# Altium integrated library TI Amplifiers and Linear Operational Amplifier High Speed.IntLib: 1100 symbols (part 14 of 44)
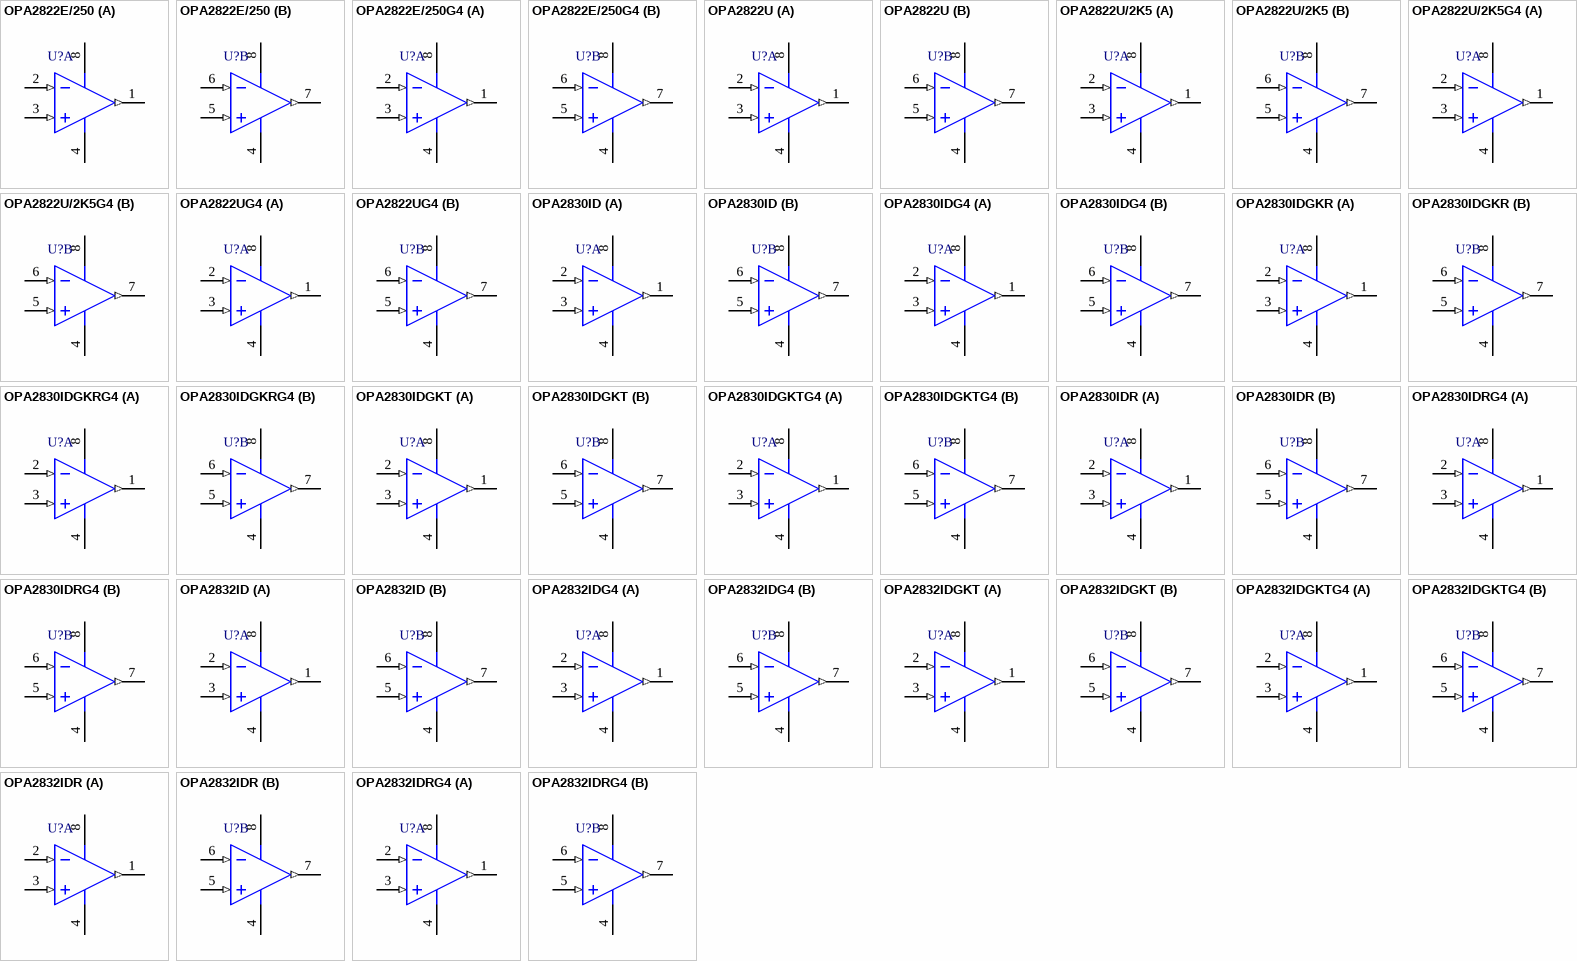
[diagram p64: symbols OPA2822E/250 to OPA2832IDRG4]

## OPA2832IDR
designator U?
Dual, Low Power, High-Speed, Fixed Gain Operational Amplifier, 3 to 11 V, -40 to 85 degC, 8-pin SOIC (D8), Green (RoHS & no Sb/Br); Manufacturer: Texas Instruments; PartNumber: OPA2832IDR; 2nd Harmonic(dBc): 62; 3rd Harmonic(dBc): 72; Acl, min stable gain(V/V): 1; BW @ Acl(MHz): 210; Diff Gain(%): 0.11; Diff Phase(deg): 0.14; Iib(Max)(nA): 10000; Io(Typ)(mA): 75; Iq per channel(Max)(mA): 3.9; Number of Channels: 2; Rail-Rail: Out; Settling Time (0.1%)(Typ)(ns): 46; Slew Rate(Typ)(V/us): 320; Sub Family: High Output Current Amplifier (>=50mA), High Speed Amplifier (>=50MHz); Vio(Max)(mV): 6; Vn at Flatband(Typ)(nV/rtHz): 9.3; Vs(Max)(V): 11; Vs(Min)(V): 3; DatasheetVersion: SBOS327C; PackageVersion: 4040047-3/M, 06/2011; PackageReference: D8; PackageDescription: 8-Pin Plastic Small Outline, Body 4.9 x 3.9 mm, Pitch 1.27 mm; Supplier 1: Digi-Key; Supplier Part Number 1: OPA2832IDR-ND; Supplier 2: Mouser; Supplier Part Number 2: 595-OPA2832IDR; Eco-Plan: Green (RoHS & no Sb/Br); Mounting Technology: Surface Mount; Code_JEDEC: MS-012; ComponentLink1Description: Manufacturer URL; ComponentLink1URL: http://www.ti.com/; ComponentLink2Description: Datasheet; ComponentLink2URL: http://www.ti.com/general/docs/lit/getliterature.tsp?genericPartNumber=OPA2832&fileType=pdf; ComponentLink3Description: Package Specification; ComponentLink3URL: http://www.ti.com/litv/pdf/msoi002j
footprint TI-D8_N (SOIC, 8-Leads, Body 4.9x3.9mm, Pitch 1.27mm, IPC Medium Density)
footprint TI-D8_L (SOIC, 8-Leads, Body 4.9x3.9mm, Pitch 1.27mm, IPC High Density)
footprint TI-D8_M (SOIC, 8-Leads, Body 4.9x3.9mm, Pitch 1.27mm, IPC Low Density)
pins on every part: 4 VS- (power), 8 VS+ (power)
part A pins: 1 OUT1 (out), 2 IN1- (in), 3 IN1+ (in)
part B pins: 5 IN2+ (in), 6 IN2- (in), 7 OUT2 (out)

## OPA2832IDRG4
designator U?
Dual, Low Power, High-Speed, Fixed Gain Operational Amplifier, 3 to 11 V, -40 to 85 degC, 8-pin SOIC (D8), Green (RoHS & no Sb/Br); Manufacturer: Texas Instruments; PartNumber: OPA2832IDRG4; 2nd Harmonic(dBc): 62; 3rd Harmonic(dBc): 72; Acl, min stable gain(V/V): 1; BW @ Acl(MHz): 210; Diff Gain(%): 0.11; Diff Phase(deg): 0.14; Iib(Max)(nA): 10000; Io(Typ)(mA): 75; Iq per channel(Max)(mA): 3.9; Number of Channels: 2; Rail-Rail: Out; Settling Time (0.1%)(Typ)(ns): 46; Slew Rate(Typ)(V/us): 320; Sub Family: High Output Current Amplifier (>=50mA), High Speed Amplifier (>=50MHz); Vio(Max)(mV): 6; Vn at Flatband(Typ)(nV/rtHz): 9.3; Vs(Max)(V): 11; Vs(Min)(V): 3; DatasheetVersion: SBOS327C; PackageVersion: 4040047-3/M, 06/2011; PackageReference: D8; PackageDescription: 8-Pin Plastic Small Outline, Body 4.9 x 3.9 mm, Pitch 1.27 mm; Supplier 1: Digi-Key; Supplier Part Number 1: OPA2832IDRG4-ND; Supplier 2: Mouser; Supplier Part Number 2: 595-OPA2832IDRG4; Eco-Plan: Green (RoHS & no Sb/Br); Mounting Technology: Surface Mount; Code_JEDEC: MS-012; ComponentLink1Description: Manufacturer URL; ComponentLink1URL: http://www.ti.com/; ComponentLink2Description: Datasheet; ComponentLink2URL: http://www.ti.com/general/docs/lit/getliterature.tsp?genericPartNumber=OPA2832&fileType=pdf; ComponentLink3Description: Package Specification; ComponentLink3URL: http://www.ti.com/litv/pdf/msoi002j
footprint TI-D8_N (SOIC, 8-Leads, Body 4.9x3.9mm, Pitch 1.27mm, IPC Medium Density)
footprint TI-D8_L (SOIC, 8-Leads, Body 4.9x3.9mm, Pitch 1.27mm, IPC High Density)
footprint TI-D8_M (SOIC, 8-Leads, Body 4.9x3.9mm, Pitch 1.27mm, IPC Low Density)
pins on every part: 4 VS- (power), 8 VS+ (power)
part A pins: 1 OUT1 (out), 2 IN1- (in), 3 IN1+ (in)
part B pins: 5 IN2+ (in), 6 IN2- (in), 7 OUT2 (out)

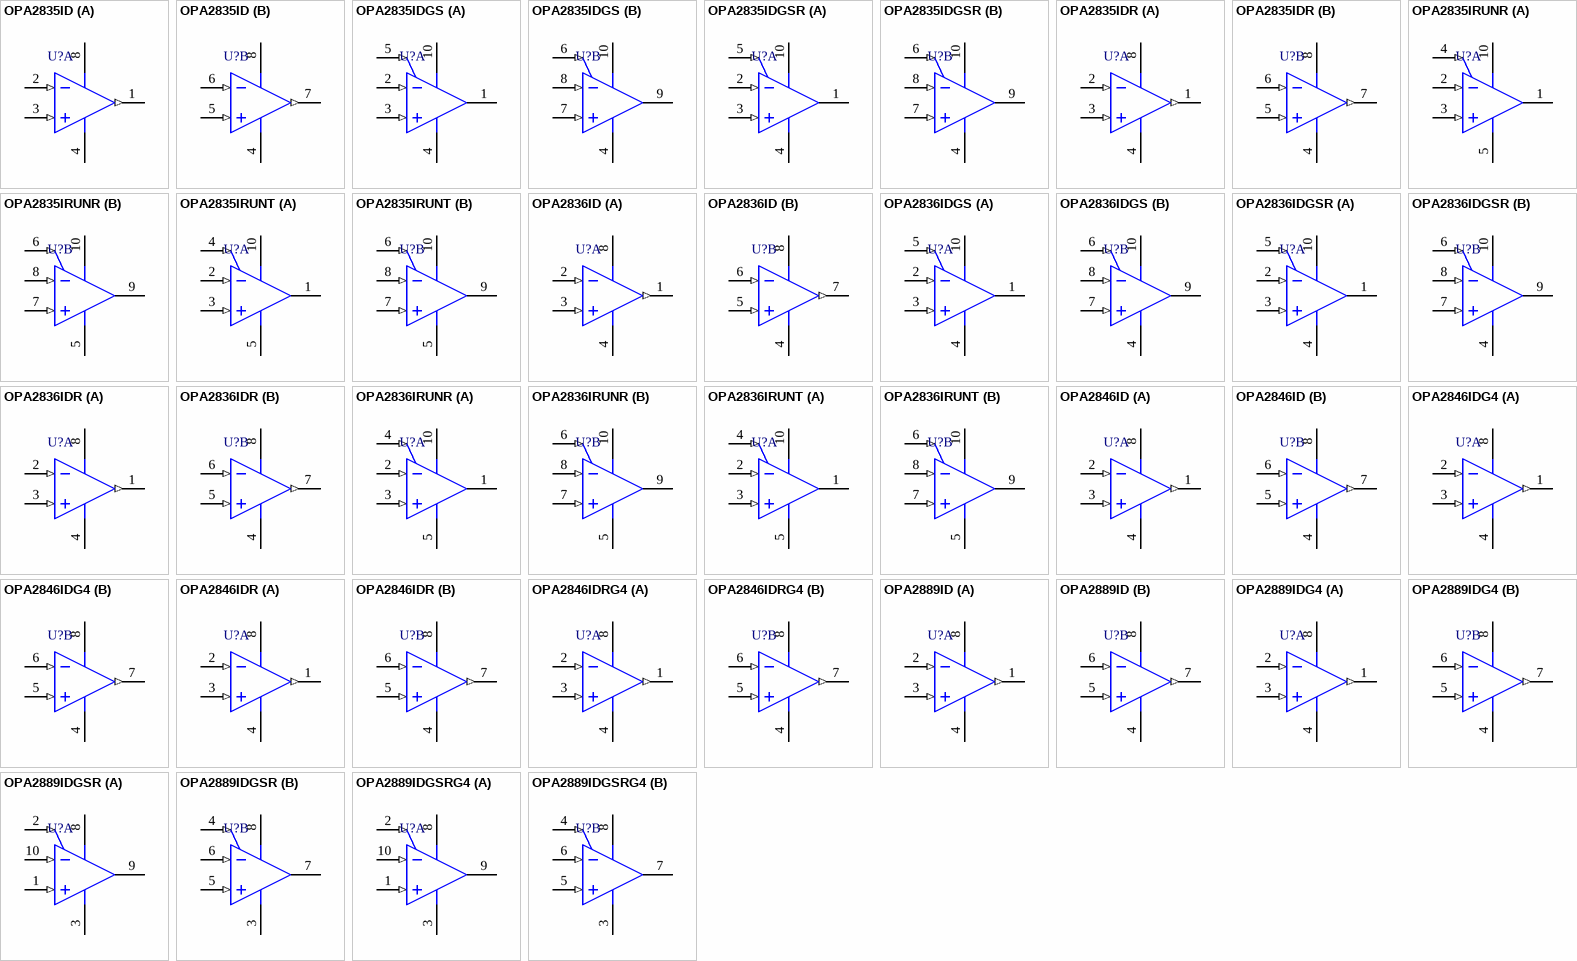
[diagram p14: symbols OPA2835ID to OPA2889IDGSRG4]

## OPA2835ID
designator U?
Dual, Ultra Low Power, Rail-to-Rail Out, Negative Rail In, VFB Amplifier, 2.5 to 5.5 V, -40 to 85 degC, 8-pin SOIC (D8), Green (RoHS & no Sb/Br); Manufacturer: Texas Instruments; PartNumber: OPA2835ID; 2nd Harmonic(dBc): 70; 3rd Harmonic(dBc): 73; Acl, min stable gain(V/V): 1; BW @ Acl(MHz): 56; Iib(Max)(nA): 400; Io(Typ)(mA): 40; Iq per channel(Max)(mA): 0.25; Number of Channels: 2; Settling Time (0.1%)(Typ)(ns): 55; Slew Rate(Typ)(V/us): 160; Sub Family: High Speed Amplifier (>=50MHz), Low Noise Amp (<=10nV/rtHz), Low Offset Voltage Amplifier (<=500uV), Low Power Amp (<=500uA), Low Supply Voltage Amplifier (<=2.7V); Vio(Max)(mV): 0.5; Vn at Flatband(Typ)(nV/rtHz): 9.3; Vs(Max)(V): 5.5; Vs(Min)(V): 2.5; DatasheetVersion: SLOS713D; PackageVersion: 4040047-3/M, 06/2011; PackageReference: D8; PackageDescription: 8-Pin Plastic Small Outline, Body 4.9 x 3.9 mm, Pitch 1.27 mm; Supplier 1: Digi-Key; Supplier Part Number 1: 296-29656-ND; Supplier 2: Farnell; Supplier Part Number 2: 2064256; Supplier 3: Newark; Supplier Part Number 3: 71T7085; Supplier 4: Mouser; Supplier Part Number 4: 595-OPA2835ID; Eco-Plan: Green (RoHS & no Sb/Br); Mounting Technology: Surface Mount; Code_JEDEC: MS-012; ComponentLink1Description: Manufacturer URL; ComponentLink1URL: http://www.ti.com/; ComponentLink2Description: Datasheet; ComponentLink2URL: http://www.ti.com/general/docs/lit/getliterature.tsp?genericPartNumber=OPA2835&fileType=pdf; ComponentLink3Description: Package Specification; ComponentLink3URL: http://www.ti.com/litv/pdf/msoi002j
footprint TI-D8_N (SOIC, 8-Leads, Body 4.9x3.9mm, Pitch 1.27mm, IPC Medium Density)
footprint TI-D8_L (SOIC, 8-Leads, Body 4.9x3.9mm, Pitch 1.27mm, IPC High Density)
footprint TI-D8_M (SOIC, 8-Leads, Body 4.9x3.9mm, Pitch 1.27mm, IPC Low Density)
pins on every part: 4 VS- (power), 8 VS+ (power)
part A pins: 1 VOUT1 (out), 2 VIN1- (in), 3 VIN1+ (in)
part B pins: 5 VIN2+ (in), 6 VIN2- (in), 7 VOUT2 (out)

## OPA2835IDGS
designator U?
Dual, Ultra Low Power, Rail-to-Rail Out, Negative Rail In, VFB Amplifier, 2.5 to 5.5 V, -40 to 85 degC, 10-pin SOP (DGS10), Green (RoHS & no Sb/Br); Manufacturer: Texas Instruments; PartNumber: OPA2835IDGS; 2nd Harmonic(dBc): 70; 3rd Harmonic(dBc): 73; Acl, min stable gain(V/V): 1; BW @ Acl(MHz): 56; Iib(Max)(nA): 400; Io(Typ)(mA): 40; Iq per channel(Max)(mA): 0.25; Number of Channels: 2; Settling Time (0.1%)(Typ)(ns): 55; Slew Rate(Typ)(V/us): 160; Sub Family: High Speed Amplifier (>=50MHz), Low Noise Amp (<=10nV/rtHz), Low Offset Voltage Amplifier (<=500uV), Low Power Amp (<=500uA), Low Supply Voltage Amplifier (<=2.7V); Vio(Max)(mV): 0.5; Vn at Flatband(Typ)(nV/rtHz): 9.3; Vs(Max)(V): 5.5; Vs(Min)(V): 2.5; DatasheetVersion: SLOS713D; PackageVersion: 4073272/C, 02/2004; PackageReference: DGS10; PackageDescription: 10-Pin Plastic Small Outline, Body 3 x 3 mm, Pitch 0.5 mm; Supplier 1: Digi-Key; Supplier Part Number 1: 296-29657-ND; Supplier 2: Farnell; Supplier Part Number 2: 2064257; Supplier 3: Newark; Supplier Part Number 3: 71T7086; Supplier 4: Mouser; Supplier Part Number 4: 595-OPA2835IDGS; Eco-Plan: Green (RoHS & no Sb/Br); Mounting Technology: Surface Mount; Code_JEDEC: MO-153; ComponentLink1Description: Manufacturer URL; ComponentLink1URL: http://www.ti.com/; ComponentLink2Description: Datasheet; ComponentLink2URL: http://www.ti.com/general/docs/lit/getliterature.tsp?genericPartNumber=OPA2835&fileType=pdf; ComponentLink3Description: Package Specification; ComponentLink3URL: http://www.ti.com/lit/ml/mpds035b/mpds035b.pdf
footprint TI-DGS10_N (SOP, 10-Leads, Body 3x3mm, Pitch 0.5mm, IPC Medium Density)
footprint TI-DGS10_L (SOP, 10-Leads, Body 3x3mm, Pitch 0.5mm, IPC High Density)
footprint TI-DGS10_M (SOP, 10-Leads, Body 3x3mm, Pitch 0.5mm, IPC Low Density)
pins on every part: 4 VS- (power) "Negative power supply input", 10 VS+ (power) "Positive power supply input"
part A pins: 1 VOUT1 (hiz) "Amplifier 1 output", 2 VIN1- (in) "Amplifier 1 inverting input", 3 VIN1+ (in) "Amplifier 1 non-inverting input", 5 ~{PD1} (in) "Amplifier 1 Power Down, low = low power mode, high = normal operation (PIN MUST BE DRIVEN)"
part B pins: 6 ~{PD2} (in) "Amplifier 2 Power Down, low = low power mode, high = normal operation (PIN MUST BE DRIVEN)", 7 VIN2+ (in) "Amplifier 2 non-inverting input", 8 VIN2- (in) "Amplifier 2 inverting input", 9 VOUT2 (hiz) "Amplifier 2 output"

## OPA2835IDGSR
designator U?
Dual, Ultra Low Power, Rail-to-Rail Out, Negative Rail In, VFB Amplifier, 2.5 to 5.5 V, -40 to 85 degC, 10-pin SOP (DGS10), Green (RoHS & no Sb/Br); Manufacturer: Texas Instruments; PartNumber: OPA2835IDGSR; 2nd Harmonic(dBc): 70; 3rd Harmonic(dBc): 73; Acl, min stable gain(V/V): 1; BW @ Acl(MHz): 56; Iib(Max)(nA): 400; Io(Typ)(mA): 40; Iq per channel(Max)(mA): 0.25; Number of Channels: 2; Settling Time (0.1%)(Typ)(ns): 55; Slew Rate(Typ)(V/us): 160; Sub Family: High Speed Amplifier (>=50MHz), Low Noise Amp (<=10nV/rtHz), Low Offset Voltage Amplifier (<=500uV), Low Power Amp (<=500uA), Low Supply Voltage Amplifier (<=2.7V); Vio(Max)(mV): 0.5; Vn at Flatband(Typ)(nV/rtHz): 9.3; Vs(Max)(V): 5.5; Vs(Min)(V): 2.5; DatasheetVersion: SLOS713D; PackageVersion: 4073272/C, 02/2004; PackageReference: DGS10; PackageDescription: 10-Pin Plastic Small Outline, Body 3 x 3 mm, Pitch 0.5 mm; Supplier 1: Digi-Key; Supplier Part Number 1: OPA2835IDGSR-ND; Supplier 2: Mouser; Supplier Part Number 2: 595-OPA2835IDGSR; Eco-Plan: Green (RoHS & no Sb/Br); Mounting Technology: Surface Mount; Code_JEDEC: MO-153; ComponentLink1Description: Manufacturer URL; ComponentLink1URL: http://www.ti.com/; ComponentLink2Description: Datasheet; ComponentLink2URL: http://www.ti.com/general/docs/lit/getliterature.tsp?genericPartNumber=OPA2835&fileType=pdf; ComponentLink3Description: Package Specification; ComponentLink3URL: http://www.ti.com/lit/ml/mpds035b/mpds035b.pdf
footprint TI-DGS10_N (SOP, 10-Leads, Body 3x3mm, Pitch 0.5mm, IPC Medium Density)
footprint TI-DGS10_L (SOP, 10-Leads, Body 3x3mm, Pitch 0.5mm, IPC High Density)
footprint TI-DGS10_M (SOP, 10-Leads, Body 3x3mm, Pitch 0.5mm, IPC Low Density)
pins on every part: 4 VS- (power) "Negative power supply input", 10 VS+ (power) "Positive power supply input"
part A pins: 1 VOUT1 (hiz) "Amplifier 1 output", 2 VIN1- (in) "Amplifier 1 inverting input", 3 VIN1+ (in) "Amplifier 1 non-inverting input", 5 ~{PD1} (in) "Amplifier 1 Power Down, low = low power mode, high = normal operation (PIN MUST BE DRIVEN)"
part B pins: 6 ~{PD2} (in) "Amplifier 2 Power Down, low = low power mode, high = normal operation (PIN MUST BE DRIVEN)", 7 VIN2+ (in) "Amplifier 2 non-inverting input", 8 VIN2- (in) "Amplifier 2 inverting input", 9 VOUT2 (hiz) "Amplifier 2 output"

## OPA2835IDR
designator U?
Dual, Ultra Low Power, Rail-to-Rail Out, Negative Rail In, VFB Amplifier, 2.5 to 5.5 V, -40 to 85 degC, 8-pin SOIC (D8), Green (RoHS & no Sb/Br); Manufacturer: Texas Instruments; PartNumber: OPA2835IDR; 2nd Harmonic(dBc): 70; 3rd Harmonic(dBc): 73; Acl, min stable gain(V/V): 1; BW @ Acl(MHz): 56; Iib(Max)(nA): 400; Io(Typ)(mA): 40; Iq per channel(Max)(mA): 0.25; Number of Channels: 2; Settling Time (0.1%)(Typ)(ns): 55; Slew Rate(Typ)(V/us): 160; Sub Family: High Speed Amplifier (>=50MHz), Low Noise Amp (<=10nV/rtHz), Low Offset Voltage Amplifier (<=500uV), Low Power Amp (<=500uA), Low Supply Voltage Amplifier (<=2.7V); Vio(Max)(mV): 0.5; Vn at Flatband(Typ)(nV/rtHz): 9.3; Vs(Max)(V): 5.5; Vs(Min)(V): 2.5; DatasheetVersion: SLOS713D; PackageVersion: 4040047-3/M, 06/2011; PackageReference: D8; PackageDescription: 8-Pin Plastic Small Outline, Body 4.9 x 3.9 mm, Pitch 1.27 mm; Supplier 1: Digi-Key; Supplier Part Number 1: OPA2835IDR-ND; Supplier 2: Mouser; Supplier Part Number 2: 595-OPA2835IDR; Eco-Plan: Green (RoHS & no Sb/Br); Mounting Technology: Surface Mount; Code_JEDEC: MS-012; ComponentLink1Description: Manufacturer URL; ComponentLink1URL: http://www.ti.com/; ComponentLink2Description: Datasheet; ComponentLink2URL: http://www.ti.com/general/docs/lit/getliterature.tsp?genericPartNumber=OPA2835&fileType=pdf; ComponentLink3Description: Package Specification; ComponentLink3URL: http://www.ti.com/litv/pdf/msoi002j
footprint TI-D8_N (SOIC, 8-Leads, Body 4.9x3.9mm, Pitch 1.27mm, IPC Medium Density)
footprint TI-D8_L (SOIC, 8-Leads, Body 4.9x3.9mm, Pitch 1.27mm, IPC High Density)
footprint TI-D8_M (SOIC, 8-Leads, Body 4.9x3.9mm, Pitch 1.27mm, IPC Low Density)
pins on every part: 4 VS- (power), 8 VS+ (power)
part A pins: 1 VOUT1 (out), 2 VIN1- (in), 3 VIN1+ (in)
part B pins: 5 VIN2+ (in), 6 VIN2- (in), 7 VOUT2 (out)

## OPA2835IRUNR
designator U?
Dual, Ultra Low Power, Rail-to-Rail Out, Negative Rail In, VFB Amplifier, 2.5 to 5.5 V, -40 to 85 degC, 10-pin QFN (RUN10), Green (RoHS & no Sb/Br); Manufacturer: Texas Instruments; PartNumber: OPA2835IRUNR; 2nd Harmonic(dBc): 70; 3rd Harmonic(dBc): 73; Acl, min stable gain(V/V): 1; BW @ Acl(MHz): 56; Iib(Max)(nA): 400; Io(Typ)(mA): 40; Iq per channel(Max)(mA): 0.25; Number of Channels: 2; Settling Time (0.1%)(Typ)(ns): 55; Slew Rate(Typ)(V/us): 160; Sub Family: High Speed Amplifier (>=50MHz), Low Noise Amp (<=10nV/rtHz), Low Offset Voltage Amplifier (<=500uV), Low Power Amp (<=500uA), Low Supply Voltage Amplifier (<=2.7V); Vio(Max)(mV): 0.5; Vn at Flatband(Typ)(nV/rtHz): 9.3; Vs(Max)(V): 5.5; Vs(Min)(V): 2.5; DatasheetVersion: SLOS713D; PackageVersion: 4209107/B, 11/2010; PackageReference: RUN10; PackageDescription: 10-Pin Plastic Quad Flatpack No-Lead, Body 2 x 2 mm, Pitch 0.5 mm; Supplier 1: Digi-Key; Supplier Part Number 1: OPA2835IRUNR-ND; Supplier 2: Mouser; Supplier Part Number 2: 595-OPA2835IRUNR; Eco-Plan: Green (RoHS & no Sb/Br); Mounting Technology: Surface Mount; ComponentLink1Description: Manufacturer URL; ComponentLink1URL: http://www.ti.com/; ComponentLink2Description: Datasheet; ComponentLink2URL: http://www.ti.com/general/docs/lit/getliterature.tsp?genericPartNumber=OPA2835&fileType=pdf; ComponentLink3Description: Package Specification; ComponentLink3URL: http://www.ti.com/lit/ml/mpqf225a/mpqf225a.pdf
footprint TI-RUN10_V (QFN, 10-Leads, Body 2x2mm, Pitch 0.5mm, TI Recommended)
pins on every part: 5 VS- (power) "Negative power supply input", 10 VS+ (power) "Positive power supply input"
part A pins: 1 VOUT1 (hiz) "Amplifier 1 output", 2 VIN1- (in) "Amplifier 1 inverting input", 3 VIN1+ (in) "Amplifier 1 non-inverting input", 4 ~{PD1} (in) "Amplifier 1 Power Down, low = low power mode, high = normal operation (PIN MUST BE DRIVEN)"
part B pins: 6 ~{PD2} (in) "Amplifier 2 Power Down, low = low power mode, high = normal operation (PIN MUST BE DRIVEN)", 7 VIN2+ (in) "Amplifier 2 non-inverting input", 8 VIN2- (in) "Amplifier 2 inverting input", 9 VOUT2 (hiz) "Amplifier 2 output"

## OPA2835IRUNT
designator U?
Dual, Ultra Low Power, Rail-to-Rail Out, Negative Rail In, VFB Amplifier, 2.5 to 5.5 V, -40 to 85 degC, 10-pin QFN (RUN10), Green (RoHS & no Sb/Br); Manufacturer: Texas Instruments; PartNumber: OPA2835IRUNT; 2nd Harmonic(dBc): 133; 3rd Harmonic(dBc): 137; @ MHz: 1; BW @ Acl(MHz): 51; Iib(Max)(nA): 425; Iq per channel(Max)(mA): 0.34; Number of Channels: 2; Settling Time (0.1%)(Typ)(ns): 60; Slew Rate(Typ)(V/us): 110; Sub Family: High Speed Amplifier (>=50MHz), Low Noise Amp (<=10nV/rtHz), Low Offset Voltage Amplifier (<=500uV), Low Power Amp (<=500uA), Low Supply Voltage Amplifier (<=2.7V); THD (Fc is 1 MHz)(Typ)(dB): -130; Vn at Flatband(Typ)(nV/rtHz): 9.3; Vs(Max)(V): 5.5; Vs(Min)(V): 2.5; DatasheetVersion: SLOS713D; PackageVersion: 4209107/B, 11/2010; PackageReference: RUN10; PackageDescription: 10-Pin Plastic Quad Flatpack No-Lead, Body 2 x 2 mm, Pitch 0.5 mm; Supplier 1: Digi-Key; Supplier Part Number 1: 296-29671-2-ND; Supplier 2: Digi-Key; Supplier Part Number 2: 296-29671-1-ND; Supplier 3: Digi-Key; Supplier Part Number 3: 296-29671-6-ND; Supplier 4: Farnell; Supplier Part Number 4: 2064258; Supplier 5: Mouser; Supplier Part Number 5: 595-OPA2835IRUNT; Eco-Plan: Green (RoHS & no Sb/Br); Rail-Rail: Out; Mounting Technology: Surface Mount; ComponentLink1Description: Manufacturer URL; ComponentLink1URL: http://www.ti.com/; ComponentLink2Description: Datasheet; ComponentLink2URL: http://www.ti.com/general/docs/lit/getliterature.tsp?genericPartNumber=OPA2835&fileType=pdf; ComponentLink3Description: Package Specification; ComponentLink3URL: http://www.ti.com/lit/ml/mpqf225a/mpqf225a.pdf
footprint TI-RUN10_V (QFN, 10-Leads, Body 2x2mm, Pitch 0.5mm, TI Recommended)
pins on every part: 5 VS- (power) "Negative power supply input", 10 VS+ (power) "Positive power supply input"
part A pins: 1 VOUT1 (hiz) "Amplifier 1 output", 2 VIN1- (in) "Amplifier 1 inverting input", 3 VIN1+ (in) "Amplifier 1 non-inverting input", 4 ~{PD1} (in) "Amplifier 1 Power Down, low = low power mode, high = normal operation (PIN MUST BE DRIVEN)"
part B pins: 6 ~{PD2} (in) "Amplifier 2 Power Down, low = low power mode, high = normal operation (PIN MUST BE DRIVEN)", 7 VIN2+ (in) "Amplifier 2 non-inverting input", 8 VIN2- (in) "Amplifier 2 inverting input", 9 VOUT2 (hiz) "Amplifier 2 output"

## OPA2836ID
designator U?
Dual, Very Low Power, Rail to Rail Out, Negative Rail In, VFB Operational Amplifier, 2.5 to 5.5 V, -40 to 85 degC, 8-pin SOIC (D8), Green (RoHS & no Sb/Br); Manufacturer: Texas Instruments; PartNumber: OPA2836ID; 2nd Harmonic(dBc): 85; 3rd Harmonic(dBc): 105; Acl, min stable gain(V/V): 1; BW @ Acl(MHz): 205; Iib(Max)(nA): 1000; Io(Typ)(mA): 50; Number of Channels: 2; Settling Time (0.1%)(Typ)(ns): 30; Slew Rate(Typ)(V/us): 560; Sub Family: High Output Current Amplifier (>=50mA), High Speed Amplifier (>=50MHz), Low Noise Amp (<=10nV/rtHz), Low Offset Voltage Amplifier (<=500uV), Low Supply Voltage Amplifier (<=2.7V); Vio(Max)(mV): 0.4; Vn at Flatband(Typ)(nV/rtHz): 4.6; Vs(Max)(V): 5.5; Vs(Min)(V): 2.5; DatasheetVersion: SLOS712D; PackageVersion: 4040047-3/M, 06/2011; PackageReference: D8; PackageDescription: 8-Pin Plastic Small Outline, Body 4.9 x 3.9 mm, Pitch 1.27 mm; Supplier 1: Digi-Key; Supplier Part Number 1: 296-29793-5-ND; Supplier 2: Newark; Supplier Part Number 2: 71T5313; Supplier 3: Mouser; Supplier Part Number 3: 595-OPA2836ID; Eco-Plan: Green (RoHS & no Sb/Br); Iq per channel(Max)(mA): 1; Mounting Technology: Surface Mount; Code_JEDEC: MS-012; ComponentLink1Description: Manufacturer URL; ComponentLink1URL: http://www.ti.com/; ComponentLink2Description: Datasheet; ComponentLink2URL: http://www.ti.com/general/docs/lit/getliterature.tsp?genericPartNumber=OPA2836&fileType=pdf; ComponentLink3Description: Package Specification; ComponentLink3URL: http://www.ti.com/litv/pdf/msoi002j
footprint TI-D8_N (SOIC, 8-Leads, Body 4.9x3.9mm, Pitch 1.27mm, IPC Medium Density)
footprint TI-D8_L (SOIC, 8-Leads, Body 4.9x3.9mm, Pitch 1.27mm, IPC High Density)
footprint TI-D8_M (SOIC, 8-Leads, Body 4.9x3.9mm, Pitch 1.27mm, IPC Low Density)
pins on every part: 4 VS- (power) "Negative power supply input", 8 VS+ (power) "Positive power supply input"
part A pins: 1 VOUT1 (out) "Amplifier 1 output", 2 VIN1- (in) "Amplifier 1 inverting input", 3 VIN1+ (in) "Amplifier 1 non-inverting input"
part B pins: 5 VIN2+ (in) "Amplifier 2 non-inverting input", 6 VIN2- (in) "Amplifier 2 inverting input", 7 VOUT2 (out) "Amplifier 2 output"

## OPA2836IDGS
designator U?
Dual, Very Low Power, Rail to Rail Out, Negative Rail In, VFB Operational Amplifier, 2.5 to 5.5 V, -40 to 85 degC, 10-pin SOP (DGS10), Green (RoHS & no Sb/Br); Manufacturer: Texas Instruments; PartNumber: OPA2836IDGS; 2nd Harmonic(dBc): 85; 3rd Harmonic(dBc): 105; Acl, min stable gain(V/V): 1; BW @ Acl(MHz): 205; Iib(Max)(nA): 1000; Io(Typ)(mA): 50; Number of Channels: 2; Settling Time (0.1%)(Typ)(ns): 30; Slew Rate(Typ)(V/us): 560; Sub Family: High Output Current Amplifier (>=50mA), High Speed Amplifier (>=50MHz), Low Noise Amp (<=10nV/rtHz), Low Offset Voltage Amplifier (<=500uV), Low Supply Voltage Amplifier (<=2.7V); Vio(Max)(mV): 0.4; Vn at Flatband(Typ)(nV/rtHz): 4.6; Vs(Max)(V): 5.5; Vs(Min)(V): 2.5; DatasheetVersion: SLOS712D; PackageVersion: 4073272/C, 02/2004; PackageReference: DGS10; PackageDescription: 10-Pin Plastic Small Outline, Body 3 x 3 mm, Pitch 0.5 mm; Supplier 1: Digi-Key; Supplier Part Number 1: OPA2836IDGS-ND; Supplier 2: Newark; Supplier Part Number 2: 71T5314; Supplier 3: Mouser; Supplier Part Number 3: 595-OPA2836IDGS; Eco-Plan: Green (RoHS & no Sb/Br); Iq per channel(Max)(mA): 1; Mounting Technology: Surface Mount; Code_JEDEC: MO-153; ComponentLink1Description: Manufacturer URL; ComponentLink1URL: http://www.ti.com/; ComponentLink2Description: Datasheet; ComponentLink2URL: http://www.ti.com/general/docs/lit/getliterature.tsp?genericPartNumber=OPA2836&fileType=pdf; ComponentLink3Description: Package Specification; ComponentLink3URL: http://www.ti.com/lit/ml/mpds035b/mpds035b.pdf
footprint TI-DGS10_N (SOP, 10-Leads, Body 3x3mm, Pitch 0.5mm, IPC Medium Density)
footprint TI-DGS10_L (SOP, 10-Leads, Body 3x3mm, Pitch 0.5mm, IPC High Density)
footprint TI-DGS10_M (SOP, 10-Leads, Body 3x3mm, Pitch 0.5mm, IPC Low Density)
pins on every part: 4 VS- (power) "Negative power supply input", 10 VS+ (power) "Positive power supply input"
part A pins: 1 VOUT1 (hiz) "Amplifier 1 output", 2 VIN1- (in) "Amplifier 1 inverting input", 3 VIN1+ (in) "Amplifier 1 non-inverting input", 5 ~{PD1} (in) "Amplifier 1 Power Down, low = low power mode, high = normal operation (PIN MUST BE DRIVEN)"
part B pins: 6 ~{PD2} (in) "Amplifier 2 Power Down, low = low power mode, high = normal operation (PIN MUST BE DRIVEN)", 7 VIN2+ (in) "Amplifier 2 non-inverting input", 8 VIN2- (in) "Amplifier 2 inverting input", 9 VOUT2 (hiz) "Amplifier 2 output"

## OPA2836IDGSR
designator U?
Dual, Very Low Power, Rail to Rail Out, Negative Rail In, VFB Operational Amplifier, 2.5 to 5.5 V, -40 to 85 degC, 10-pin SOP (DGS10), Green (RoHS & no Sb/Br); Manufacturer: Texas Instruments; PartNumber: OPA2836IDGSR; 2nd Harmonic(dBc): 85; 3rd Harmonic(dBc): 105; Acl, min stable gain(V/V): 1; BW @ Acl(MHz): 205; Iib(Max)(nA): 1000; Io(Typ)(mA): 50; Number of Channels: 2; Settling Time (0.1%)(Typ)(ns): 30; Slew Rate(Typ)(V/us): 560; Sub Family: High Output Current Amplifier (>=50mA), High Speed Amplifier (>=50MHz), Low Noise Amp (<=10nV/rtHz), Low Offset Voltage Amplifier (<=500uV), Low Supply Voltage Amplifier (<=2.7V); Vio(Max)(mV): 0.4; Vn at Flatband(Typ)(nV/rtHz): 4.6; Vs(Max)(V): 5.5; Vs(Min)(V): 2.5; DatasheetVersion: SLOS712D; PackageVersion: 4073272/C, 02/2004; PackageReference: DGS10; PackageDescription: 10-Pin Plastic Small Outline, Body 3 x 3 mm, Pitch 0.5 mm; Supplier 1: Digi-Key; Supplier Part Number 1: 296-30117-2-ND; Supplier 2: Digi-Key; Supplier Part Number 2: 296-30117-1-ND; Supplier 3: Digi-Key; Supplier Part Number 3: 296-30117-6-ND; Supplier 4: Mouser; Supplier Part Number 4: 595-OPA2836IDGSR; Eco-Plan: Green (RoHS & no Sb/Br); Iq per channel(Max)(mA): 1; Mounting Technology: Surface Mount; Code_JEDEC: MO-153; ComponentLink1Description: Manufacturer URL; ComponentLink1URL: http://www.ti.com/; ComponentLink2Description: Datasheet; ComponentLink2URL: http://www.ti.com/general/docs/lit/getliterature.tsp?genericPartNumber=OPA2836&fileType=pdf; ComponentLink3Description: Package Specification; ComponentLink3URL: http://www.ti.com/lit/ml/mpds035b/mpds035b.pdf
footprint TI-DGS10_N (SOP, 10-Leads, Body 3x3mm, Pitch 0.5mm, IPC Medium Density)
footprint TI-DGS10_L (SOP, 10-Leads, Body 3x3mm, Pitch 0.5mm, IPC High Density)
footprint TI-DGS10_M (SOP, 10-Leads, Body 3x3mm, Pitch 0.5mm, IPC Low Density)
pins on every part: 4 VS- (power) "Negative power supply input", 10 VS+ (power) "Positive power supply input"
part A pins: 1 VOUT1 (hiz) "Amplifier 1 output", 2 VIN1- (in) "Amplifier 1 inverting input", 3 VIN1+ (in) "Amplifier 1 non-inverting input", 5 ~{PD1} (in) "Amplifier 1 Power Down, low = low power mode, high = normal operation (PIN MUST BE DRIVEN)"
part B pins: 6 ~{PD2} (in) "Amplifier 2 Power Down, low = low power mode, high = normal operation (PIN MUST BE DRIVEN)", 7 VIN2+ (in) "Amplifier 2 non-inverting input", 8 VIN2- (in) "Amplifier 2 inverting input", 9 VOUT2 (hiz) "Amplifier 2 output"

## OPA2836IDR
designator U?
Dual, Very Low Power, Rail to Rail Out, Negative Rail In, VFB Operational Amplifier, 2.5 to 5.5 V, -40 to 85 degC, 8-pin SOIC (D8), Green (RoHS & no Sb/Br); Manufacturer: Texas Instruments; PartNumber: OPA2836IDR; 2nd Harmonic(dBc): 85; 3rd Harmonic(dBc): 105; Acl, min stable gain(V/V): 1; BW @ Acl(MHz): 205; Iib(Max)(nA): 1000; Io(Typ)(mA): 50; Number of Channels: 2; Settling Time (0.1%)(Typ)(ns): 30; Slew Rate(Typ)(V/us): 560; Sub Family: High Output Current Amplifier (>=50mA), High Speed Amplifier (>=50MHz), Low Noise Amp (<=10nV/rtHz), Low Offset Voltage Amplifier (<=500uV), Low Supply Voltage Amplifier (<=2.7V); Vio(Max)(mV): 0.4; Vn at Flatband(Typ)(nV/rtHz): 4.6; Vs(Max)(V): 5.5; Vs(Min)(V): 2.5; DatasheetVersion: SLOS712D; PackageVersion: 4040047-3/M, 06/2011; PackageReference: D8; PackageDescription: 8-Pin Plastic Small Outline, Body 4.9 x 3.9 mm, Pitch 1.27 mm; Supplier 1: Digi-Key; Supplier Part Number 1: OPA2836IDR-ND; Supplier 2: Mouser; Supplier Part Number 2: 595-OPA2836IDR; Eco-Plan: Green (RoHS & no Sb/Br); Iq per channel(Max)(mA): 1; Mounting Technology: Surface Mount; Code_JEDEC: MS-012; ComponentLink1Description: Manufacturer URL; ComponentLink1URL: http://www.ti.com/; ComponentLink2Description: Datasheet; ComponentLink2URL: http://www.ti.com/general/docs/lit/getliterature.tsp?genericPartNumber=OPA2836&fileType=pdf; ComponentLink3Description: Package Specification; ComponentLink3URL: http://www.ti.com/litv/pdf/msoi002j
footprint TI-D8_N (SOIC, 8-Leads, Body 4.9x3.9mm, Pitch 1.27mm, IPC Medium Density)
footprint TI-D8_L (SOIC, 8-Leads, Body 4.9x3.9mm, Pitch 1.27mm, IPC High Density)
footprint TI-D8_M (SOIC, 8-Leads, Body 4.9x3.9mm, Pitch 1.27mm, IPC Low Density)
pins on every part: 4 VS- (power) "Negative power supply input", 8 VS+ (power) "Positive power supply input"
part A pins: 1 VOUT1 (out) "Amplifier 1 output", 2 VIN1- (in) "Amplifier 1 inverting input", 3 VIN1+ (in) "Amplifier 1 non-inverting input"
part B pins: 5 VIN2+ (in) "Amplifier 2 non-inverting input", 6 VIN2- (in) "Amplifier 2 inverting input", 7 VOUT2 (out) "Amplifier 2 output"

## OPA2836IRUNR
designator U?
Dual, Very Low Power, Rail to Rail Out, Negative Rail In, VFB Operational Amplifier, 2.5 to 5.5 V, -40 to 85 degC, 10-pin QFN (RUN10), Green (RoHS & no Sb/Br); Manufacturer: Texas Instruments; PartNumber: OPA2836IRUNR; 2nd Harmonic(dBc): 85; 3rd Harmonic(dBc): 105; Acl, min stable gain(V/V): 1; BW @ Acl(MHz): 205; Iib(Max)(nA): 1000; Io(Typ)(mA): 50; Number of Channels: 2; Settling Time (0.1%)(Typ)(ns): 30; Slew Rate(Typ)(V/us): 560; Sub Family: High Output Current Amplifier (>=50mA), High Speed Amplifier (>=50MHz), Low Noise Amp (<=10nV/rtHz), Low Offset Voltage Amplifier (<=500uV), Low Supply Voltage Amplifier (<=2.7V); Vio(Max)(mV): 0.4; Vn at Flatband(Typ)(nV/rtHz): 4.6; Vs(Max)(V): 5.5; Vs(Min)(V): 2.5; DatasheetVersion: SLOS712D; PackageVersion: 4209107/B, 11/2010; PackageReference: RUN10; PackageDescription: 10-Pin Plastic Quad Flatpack No-Lead, Body 2 x 2 mm, Pitch 0.5 mm; Supplier 1: Digi-Key; Supplier Part Number 1: OPA2836IRUNR-ND; Supplier 2: Mouser; Supplier Part Number 2: 595-OPA2836IRUNR; Eco-Plan: Green (RoHS & no Sb/Br); Iq per channel(Max)(mA): 1; Mounting Technology: Surface Mount; ComponentLink1Description: Manufacturer URL; ComponentLink1URL: http://www.ti.com/; ComponentLink2Description: Datasheet; ComponentLink2URL: http://www.ti.com/general/docs/lit/getliterature.tsp?genericPartNumber=OPA2836&fileType=pdf; ComponentLink3Description: Package Specification; ComponentLink3URL: http://www.ti.com/lit/ml/mpqf225a/mpqf225a.pdf
footprint TI-RUN10_V (QFN, 10-Leads, Body 2x2mm, Pitch 0.5mm, TI Recommended)
pins on every part: 5 VS- (power) "Negative power supply input", 10 VS+ (power) "Positive power supply input"
part A pins: 1 VOUT1 (hiz) "Amplifier 1 output", 2 VIN1- (in) "Amplifier 1 inverting input", 3 VIN1+ (in) "Amplifier 1 non-inverting input", 4 ~{PD1} (in) "Amplifier 1 Power Down, low = low power mode, high = normal operation (PIN MUST BE DRIVEN)"
part B pins: 6 ~{PD2} (in) "Amplifier 2 Power Down, low = low power mode, high = normal operation (PIN MUST BE DRIVEN)", 7 VIN2+ (in) "Amplifier 2 non-inverting input", 8 VIN2- (in) "Amplifier 2 inverting input", 9 VOUT2 (hiz) "Amplifier 2 output"

## OPA2836IRUNT
designator U?
Dual, Very Low Power, Rail to Rail Out, Negative Rail In, VFB Operational Amplifier, 2.5 to 5.5 V, -40 to 85 degC, 10-pin QFN (RUN10), Green (RoHS & no Sb/Br); Manufacturer: Texas Instruments; PartNumber: OPA2836IRUNT; 2nd Harmonic(dBc): 85; 3rd Harmonic(dBc): 105; Acl, min stable gain(V/V): 1; BW @ Acl(MHz): 205; Iib(Max)(nA): 1550; Io(Typ)(mA): 50; Iq per channel(Max)(mA): 1.2; Number of Channels: 2; Settling Time (0.1%)(Typ)(ns): 30; Slew Rate(Typ)(V/us): 560; Sub Family: High Output Current Amplifier (>=50mA), High Speed Amplifier (>=50MHz), Low Noise Amp (<=10nV/rtHz), Low Offset Voltage Amplifier (<=500uV), Low Supply Voltage Amplifier (<=2.7V); THD (Fc is 1 MHz)(Typ)(dB): -130; Vio(Max)(mV): 0.4; Vn at Flatband(Typ)(nV/rtHz): 4.6; Vs(Max)(V): 5.5; Vs(Min)(V): 2.5; DatasheetVersion: SLOS712D; PackageVersion: 4209107/B, 11/2010; PackageReference: RUN10; PackageDescription: 10-Pin Plastic Quad Flatpack No-Lead, Body 2 x 2 mm, Pitch 0.5 mm; Supplier 1: Digi-Key; Supplier Part Number 1: 296-29672-2-ND; Supplier 2: Digi-Key; Supplier Part Number 2: 296-29672-1-ND; Supplier 3: Digi-Key; Supplier Part Number 3: 296-29672-6-ND; Supplier 4: Farnell; Supplier Part Number 4: 2300736; Supplier 5: Newark; Supplier Part Number 5: 24W9078; Supplier 6: Newark; Supplier Part Number 6: 71T5318; Supplier 7: Mouser; Supplier Part Number 7: 595-OPA2836IRUNT; Eco-Plan: Green (RoHS & no Sb/Br); Rail-Rail: Out; Mounting Technology: Surface Mount; ComponentLink1Description: Manufacturer URL; ComponentLink1URL: http://www.ti.com/; ComponentLink2Description: Datasheet; ComponentLink2URL: http://www.ti.com/general/docs/lit/getliterature.tsp?genericPartNumber=OPA2836&fileType=pdf; ComponentLink3Description: Package Specification; ComponentLink3URL: http://www.ti.com/lit/ml/mpqf225a/mpqf225a.pdf
footprint TI-RUN10_V (QFN, 10-Leads, Body 2x2mm, Pitch 0.5mm, TI Recommended)
pins on every part: 5 VS- (power) "Negative power supply input", 10 VS+ (power) "Positive power supply input"
part A pins: 1 VOUT1 (hiz) "Amplifier 1 output", 2 VIN1- (in) "Amplifier 1 inverting input", 3 VIN1+ (in) "Amplifier 1 non-inverting input", 4 ~{PD1} (in) "Amplifier 1 Power Down, low = low power mode, high = normal operation (PIN MUST BE DRIVEN)"
part B pins: 6 ~{PD2} (in) "Amplifier 2 Power Down, low = low power mode, high = normal operation (PIN MUST BE DRIVEN)", 7 VIN2+ (in) "Amplifier 2 non-inverting input", 8 VIN2- (in) "Amplifier 2 inverting input", 9 VOUT2 (hiz) "Amplifier 2 output"

## OPA2846ID
designator U?
Dual, Wideband, Low-Noise, Voltage-Feedback Operational Amplifier, 6 to 12 V, -40 to 85 degC, 8-pin SOIC (D8), Green (RoHS & no Sb/Br); Manufacturer: Texas Instruments; PartNumber: OPA2846ID; 2nd Harmonic(dBc): 95; 3rd Harmonic(dBc): 109; @ MHz: 5; Acl, min stable gain(V/V): 7; BW @ Acl(MHz): 425; Diff Gain(%): 0.02; Iib(Max)(nA): 21200; Io(Typ)(mA): 80; Iq per channel(Max)(mA): 13.35; Number of Channels: 2; Settling Time (0.1%)(Typ)(ns): 18; Slew Rate(Typ)(V/us): 600; Sub Family: High Output Current Amplifier (>=50mA), High Speed Amplifier (>=50MHz); THD (Fc is 1 MHz)(Typ)(dB): -84; Vio(Max)(mV): 0.65; Vn at Flatband(Typ)(nV/rtHz): 1.2; Vs(Max)(V): 12; Vs(Min)(V): 6; DatasheetVersion: SBOS274C; PackageVersion: 4040047-3/M, 06/2011; PackageReference: D8; PackageDescription: 8-Pin Plastic Small Outline, Body 4.9 x 3.9 mm, Pitch 1.27 mm; Supplier 1: Digi-Key; Supplier Part Number 1: 296-16853-5-ND; Supplier 2: Newark; Supplier Part Number 2: 01J0606; Supplier 3: Mouser; Supplier Part Number 3: 595-OPA2846ID; Diff Phase(deg): 0.02; Eco-Plan: Green (RoHS & no Sb/Br); Mounting Technology: Surface Mount; Code_JEDEC: MS-012; ComponentLink1Description: Manufacturer URL; ComponentLink1URL: http://www.ti.com/; ComponentLink2Description: Datasheet; ComponentLink2URL: http://www.ti.com/general/docs/lit/getliterature.tsp?genericPartNumber=OPA2846&fileType=pdf; ComponentLink3Description: Package Specification; ComponentLink3URL: http://www.ti.com/litv/pdf/msoi002j
footprint TI-D8_N (SOIC, 8-Leads, Body 4.9x3.9mm, Pitch 1.27mm, IPC Medium Density)
footprint TI-D8_L (SOIC, 8-Leads, Body 4.9x3.9mm, Pitch 1.27mm, IPC High Density)
footprint TI-D8_M (SOIC, 8-Leads, Body 4.9x3.9mm, Pitch 1.27mm, IPC Low Density)
pins on every part: 4 V- (power), 8 V+ (power)
part A pins: 1 OUT A (out), 2 IN A- (in), 3 IN A+ (in)
part B pins: 5 IN B+ (in), 6 IN B- (in), 7 OUT B (out)

## OPA2846IDG4
designator U?
Dual, Wideband, Low-Noise, Voltage-Feedback Operational Amplifier, 6 to 12 V, -40 to 85 degC, 8-pin SOIC (D8), Green (RoHS & no Sb/Br); Manufacturer: Texas Instruments; PartNumber: OPA2846IDG4; 2nd Harmonic(dBc): 95; 3rd Harmonic(dBc): 109; @ MHz: 5; Acl, min stable gain(V/V): 7; BW @ Acl(MHz): 425; Diff Gain(%): 0.02; Iib(Max)(nA): 21200; Io(Typ)(mA): 80; Iq per channel(Max)(mA): 13.35; Number of Channels: 2; Settling Time (0.1%)(Typ)(ns): 18; Slew Rate(Typ)(V/us): 600; Sub Family: High Output Current Amplifier (>=50mA), High Speed Amplifier (>=50MHz); THD (Fc is 1 MHz)(Typ)(dB): -84; Vio(Max)(mV): 0.65; Vn at Flatband(Typ)(nV/rtHz): 1.2; Vs(Max)(V): 12; Vs(Min)(V): 6; DatasheetVersion: SBOS274C; PackageVersion: 4040047-3/M, 06/2011; PackageReference: D8; PackageDescription: 8-Pin Plastic Small Outline, Body 4.9 x 3.9 mm, Pitch 1.27 mm; Supplier 1: Digi-Key; Supplier Part Number 1: OPA2846IDG4-ND; Supplier 2: Mouser; Supplier Part Number 2: 595-OPA2846IDG4; Diff Phase(deg): 0.02; Eco-Plan: Green (RoHS & no Sb/Br); Mounting Technology: Surface Mount; Code_JEDEC: MS-012; ComponentLink1Description: Manufacturer URL; ComponentLink1URL: http://www.ti.com/; ComponentLink2Description: Datasheet; ComponentLink2URL: http://www.ti.com/general/docs/lit/getliterature.tsp?genericPartNumber=OPA2846&fileType=pdf; ComponentLink3Description: Package Specification; ComponentLink3URL: http://www.ti.com/litv/pdf/msoi002j
footprint TI-D8_N (SOIC, 8-Leads, Body 4.9x3.9mm, Pitch 1.27mm, IPC Medium Density)
footprint TI-D8_L (SOIC, 8-Leads, Body 4.9x3.9mm, Pitch 1.27mm, IPC High Density)
footprint TI-D8_M (SOIC, 8-Leads, Body 4.9x3.9mm, Pitch 1.27mm, IPC Low Density)
pins on every part: 4 V- (power), 8 V+ (power)
part A pins: 1 OUT A (out), 2 IN A- (in), 3 IN A+ (in)
part B pins: 5 IN B+ (in), 6 IN B- (in), 7 OUT B (out)

## OPA2846IDR
designator U?
Dual, Wideband, Low-Noise, Voltage-Feedback Operational Amplifier, 6 to 12 V, -40 to 85 degC, 8-pin SOIC (D8), Green (RoHS & no Sb/Br); Manufacturer: Texas Instruments; PartNumber: OPA2846IDR; 2nd Harmonic(dBc): 95; 3rd Harmonic(dBc): 109; @ MHz: 5; Acl, min stable gain(V/V): 7; BW @ Acl(MHz): 425; Diff Gain(%): 0.02; Iib(Max)(nA): 21200; Io(Typ)(mA): 80; Iq per channel(Max)(mA): 13.35; Number of Channels: 2; Settling Time (0.1%)(Typ)(ns): 18; Slew Rate(Typ)(V/us): 600; Sub Family: High Output Current Amplifier (>=50mA), High Speed Amplifier (>=50MHz); THD (Fc is 1 MHz)(Typ)(dB): -84; Vio(Max)(mV): 0.65; Vn at Flatband(Typ)(nV/rtHz): 1.2; Vs(Max)(V): 12; Vs(Min)(V): 6; DatasheetVersion: SBOS274C; PackageVersion: 4040047-3/M, 06/2011; PackageReference: D8; PackageDescription: 8-Pin Plastic Small Outline, Body 4.9 x 3.9 mm, Pitch 1.27 mm; Supplier 1: Digi-Key; Supplier Part Number 1: OPA2846IDR-ND; Supplier 2: Mouser; Supplier Part Number 2: 595-OPA2846IDR; Diff Phase(deg): 0.02; Eco-Plan: Green (RoHS & no Sb/Br); Mounting Technology: Surface Mount; Code_JEDEC: MS-012; ComponentLink1Description: Manufacturer URL; ComponentLink1URL: http://www.ti.com/; ComponentLink2Description: Datasheet; ComponentLink2URL: http://www.ti.com/general/docs/lit/getliterature.tsp?genericPartNumber=OPA2846&fileType=pdf; ComponentLink3Description: Package Specification; ComponentLink3URL: http://www.ti.com/litv/pdf/msoi002j
footprint TI-D8_N (SOIC, 8-Leads, Body 4.9x3.9mm, Pitch 1.27mm, IPC Medium Density)
footprint TI-D8_L (SOIC, 8-Leads, Body 4.9x3.9mm, Pitch 1.27mm, IPC High Density)
footprint TI-D8_M (SOIC, 8-Leads, Body 4.9x3.9mm, Pitch 1.27mm, IPC Low Density)
pins on every part: 4 V- (power), 8 V+ (power)
part A pins: 1 OUT A (out), 2 IN A- (in), 3 IN A+ (in)
part B pins: 5 IN B+ (in), 6 IN B- (in), 7 OUT B (out)

## OPA2846IDRG4
designator U?
Dual, Wideband, Low-Noise, Voltage-Feedback Operational Amplifier, 6 to 12 V, -40 to 85 degC, 8-pin SOIC (D8), Green (RoHS & no Sb/Br); Manufacturer: Texas Instruments; PartNumber: OPA2846IDRG4; 2nd Harmonic(dBc): 76; 3rd Harmonic(dBc): 109; @ MHz: 5; Acl, min stable gain(V/V): 7; BW @ Acl(MHz): 425; Diff Gain(%): 0.02; Iib(Max)(nA): 21200; Io(Typ)(mA): 80; Iq per channel(Max)(mA): 13.35; Number of Channels: 2; Settling Time (0.1%)(Typ)(ns): 12; Slew Rate(Typ)(V/us): 600; Sub Family: High Output Current Amplifier (>=50mA), High Speed Amplifier (>=50MHz); THD (Fc is 1 MHz)(Typ)(dB): -84; Vio(Max)(mV): 0.76; Vn at Flatband(Typ)(nV/rtHz): 1.2; Vs(Min)(V): 6; DatasheetVersion: SBOS274C; PackageVersion: 4040047-3/M, 06/2011; PackageReference: D8; PackageDescription: 8-Pin Plastic Small Outline, Body 4.9 x 3.9 mm, Pitch 1.27 mm; Supplier 1: Digi-Key; Supplier Part Number 1: OPA2846IDRG4-ND; Supplier 2: Mouser; Supplier Part Number 2: 595-OPA2846IDRG4; Diff Phase(deg): 0.02; Eco-Plan: Green (RoHS & no Sb/Br); Vs(Max)(V): 12; Mounting Technology: Surface Mount; Code_JEDEC: MS-012; ComponentLink1Description: Manufacturer URL; ComponentLink1URL: http://www.ti.com/; ComponentLink2Description: Datasheet; ComponentLink2URL: http://www.ti.com/general/docs/lit/getliterature.tsp?genericPartNumber=OPA2846&fileType=pdf; ComponentLink3Description: Package Specification; ComponentLink3URL: http://www.ti.com/litv/pdf/msoi002j
footprint TI-D8_N (SOIC, 8-Leads, Body 4.9x3.9mm, Pitch 1.27mm, IPC Medium Density)
footprint TI-D8_L (SOIC, 8-Leads, Body 4.9x3.9mm, Pitch 1.27mm, IPC High Density)
footprint TI-D8_M (SOIC, 8-Leads, Body 4.9x3.9mm, Pitch 1.27mm, IPC Low Density)
pins on every part: 4 V- (power), 8 V+ (power)
part A pins: 1 OUT A (out), 2 IN A- (in), 3 IN A+ (in)
part B pins: 5 IN B+ (in), 6 IN B- (in), 7 OUT B (out)

## OPA2889ID
designator U?
Dual, Low Power, Wideband, Voltage Feedback Operational Amplifier with Disable, 2.6 to 12 V, -40 to 85 degC, 8-pin SOIC (D8), Green (RoHS & no Sb/Br); Manufacturer: Texas Instruments; PartNumber: OPA2889ID; 2nd Harmonic(dBc): 75; 3rd Harmonic(dBc): 80; @ MHz: 1; BW @ Acl(MHz): 115; Diff Gain(%): 0.06; Diff Phase(deg): 0.04; Iib(Max)(nA): 750; Io(Typ)(mA): 40; Iq per channel(Max)(mA): 0.46; Number of Channels: 2; Settling Time (0.1%)(Typ)(ns): 25; Slew Rate(Typ)(V/us): 250; Sub Family: High Speed Amplifier (>=50MHz), Low Supply Voltage Amplifier (<=2.7V); THD (Fc is 1 MHz)(Typ)(dB): -74; Vio(Max)(mV): 5; Vn at Flatband(Typ)(nV/rtHz): 8.4; Vs(Max)(V): 12; Vs(Min)(V): 2.6; DatasheetVersion: SBOS373B; PackageVersion: 4040047-3/M, 06/2011; PackageReference: D8; PackageDescription: 8-Pin Plastic Small Outline, Body 4.9 x 3.9 mm, Pitch 1.27 mm; Supplier 1: Digi-Key; Supplier Part Number 1: 296-22185-5-ND; Supplier 2: Farnell; Supplier Part Number 2: 1603400; Supplier 3: Newark; Supplier Part Number 3: 12N2332; Supplier 4: Newark; Supplier Part Number 4: 50M8876; Supplier 5: Mouser; Supplier Part Number 5: 595-OPA2889ID; Acl, min stable gain(V/V): 1; Eco-Plan: Green (RoHS & no Sb/Br); Mounting Technology: Surface Mount; Code_JEDEC: MS-012; ComponentLink1Description: Manufacturer URL; ComponentLink1URL: http://www.ti.com/; ComponentLink2Description: Datasheet; ComponentLink2URL: http://www.ti.com/general/docs/lit/getliterature.tsp?genericPartNumber=OPA2889&fileType=pdf; ComponentLink3Description: Package Specification; ComponentLink3URL: http://www.ti.com/litv/pdf/msoi002j
footprint TI-D8_N (SOIC, 8-Leads, Body 4.9x3.9mm, Pitch 1.27mm, IPC Medium Density)
footprint TI-D8_L (SOIC, 8-Leads, Body 4.9x3.9mm, Pitch 1.27mm, IPC High Density)
footprint TI-D8_M (SOIC, 8-Leads, Body 4.9x3.9mm, Pitch 1.27mm, IPC Low Density)
pins on every part: 4 VS- (power), 8 VS+ (power)
part A pins: 1 OUT A (out), 2 IN A- (in), 3 IN A+ (in)
part B pins: 5 IN B+ (in), 6 IN B- (in), 7 OUT B (out)

## OPA2889IDG4
designator U?
Dual, Low Power, Wideband, Voltage Feedback Operational Amplifier with Disable, 2.6 to 12 V, -40 to 85 degC, 8-pin SOIC (D8), Green (RoHS & no Sb/Br); Manufacturer: Texas Instruments; PartNumber: OPA2889IDG4; 2nd Harmonic(dBc): 75; 3rd Harmonic(dBc): 80; @ MHz: 1; BW @ Acl(MHz): 115; Diff Gain(%): 0.06; Diff Phase(deg): 0.04; Iib(Max)(nA): 750; Io(Typ)(mA): 40; Iq per channel(Max)(mA): 0.46; Number of Channels: 2; Settling Time (0.1%)(Typ)(ns): 25; Slew Rate(Typ)(V/us): 250; Sub Family: High Speed Amplifier (>=50MHz), Low Supply Voltage Amplifier (<=2.7V); THD (Fc is 1 MHz)(Typ)(dB): -74; Vio(Max)(mV): 5; Vn at Flatband(Typ)(nV/rtHz): 8.4; Vs(Max)(V): 12; Vs(Min)(V): 2.6; DatasheetVersion: SBOS373B; PackageVersion: 4040047-3/M, 06/2011; PackageReference: D8; PackageDescription: 8-Pin Plastic Small Outline, Body 4.9 x 3.9 mm, Pitch 1.27 mm; Supplier 1: Digi-Key; Supplier Part Number 1: OPA2889IDG4-ND; Supplier 2: Mouser; Supplier Part Number 2: 595-OPA2889IDG4; Acl, min stable gain(V/V): 1; Eco-Plan: Green (RoHS & no Sb/Br); Mounting Technology: Surface Mount; Code_JEDEC: MS-012; ComponentLink1Description: Manufacturer URL; ComponentLink1URL: http://www.ti.com/; ComponentLink2Description: Datasheet; ComponentLink2URL: http://www.ti.com/general/docs/lit/getliterature.tsp?genericPartNumber=OPA2889&fileType=pdf; ComponentLink3Description: Package Specification; ComponentLink3URL: http://www.ti.com/litv/pdf/msoi002j
footprint TI-D8_N (SOIC, 8-Leads, Body 4.9x3.9mm, Pitch 1.27mm, IPC Medium Density)
footprint TI-D8_L (SOIC, 8-Leads, Body 4.9x3.9mm, Pitch 1.27mm, IPC High Density)
footprint TI-D8_M (SOIC, 8-Leads, Body 4.9x3.9mm, Pitch 1.27mm, IPC Low Density)
pins on every part: 4 VS- (power), 8 VS+ (power)
part A pins: 1 OUT A (out), 2 IN A- (in), 3 IN A+ (in)
part B pins: 5 IN B+ (in), 6 IN B- (in), 7 OUT B (out)

## OPA2889IDGSR
designator U?
Dual, Low Power, Wideband, Voltage Feedback Operational Amplifier with Disable, 2.6 to 12 V, -40 to 85 degC, 10-pin SOP (DGS10), Green (RoHS & no Sb/Br); Manufacturer: Texas Instruments; PartNumber: OPA2889IDGSR; 2nd Harmonic(dBc): 75; 3rd Harmonic(dBc): 80; @ MHz: 1; BW @ Acl(MHz): 115; Diff Gain(%): 0.06; Diff Phase(deg): 0.04; Iib(Max)(nA): 750; Io(Typ)(mA): 40; Iq per channel(Max)(mA): 0.46; Number of Channels: 2; Settling Time (0.1%)(Typ)(ns): 25; Slew Rate(Typ)(V/us): 250; Sub Family: High Speed Amplifier (>=50MHz), Low Supply Voltage Amplifier (<=2.7V); THD (Fc is 1 MHz)(Typ)(dB): -74; Vio(Max)(mV): 5; Vn at Flatband(Typ)(nV/rtHz): 8.4; Vs(Max)(V): 12; Vs(Min)(V): 2.6; DatasheetVersion: SBOS373B; PackageVersion: 4073272/C, 02/2004; PackageReference: DGS10; PackageDescription: 10-Pin Plastic Small Outline, Body 3 x 3 mm, Pitch 0.5 mm; Supplier 1: Digi-Key; Supplier Part Number 1: 296-22186-2-ND; Supplier 2: Digi-Key; Supplier Part Number 2: 296-22186-1-ND; Supplier 3: Digi-Key; Supplier Part Number 3: 296-22186-6-ND; Supplier 4: Newark; Supplier Part Number 4: 50M8877; Supplier 5: Mouser; Supplier Part Number 5: 595-OPA2889IDGSR; Acl, min stable gain(V/V): 1; Eco-Plan: Green (RoHS & no Sb/Br); Mounting Technology: Surface Mount; Code_JEDEC: MO-153; ComponentLink1Description: Manufacturer URL; ComponentLink1URL: http://www.ti.com/; ComponentLink2Description: Datasheet; ComponentLink2URL: http://www.ti.com/general/docs/lit/getliterature.tsp?genericPartNumber=OPA2889&fileType=pdf; ComponentLink3Description: Package Specification; ComponentLink3URL: http://www.ti.com/lit/ml/mpds035b/mpds035b.pdf
footprint TI-DGS10_N (SOP, 10-Leads, Body 3x3mm, Pitch 0.5mm, IPC Medium Density)
footprint TI-DGS10_L (SOP, 10-Leads, Body 3x3mm, Pitch 0.5mm, IPC High Density)
footprint TI-DGS10_M (SOP, 10-Leads, Body 3x3mm, Pitch 0.5mm, IPC Low Density)
pins on every part: 3 VS- (power), 8 VS+ (power)
part A pins: 1 IN A+ (in), 2 ~{DIS A} (in), 9 OUT A (hiz), 10 IN A- (in)
part B pins: 4 ~{DIS B} (in), 5 IN B+ (in), 6 IN B- (in), 7 OUT B (hiz)

## OPA2889IDGSRG4
designator U?
Dual, Low Power, Wideband, Voltage Feedback Operational Amplifier with Disable, 2.6 to 12 V, -40 to 85 degC, 10-pin SOP (DGS10), Green (RoHS & no Sb/Br); Manufacturer: Texas Instruments; PartNumber: OPA2889IDGSRG4; 2nd Harmonic(dBc): 75; 3rd Harmonic(dBc): 80; @ MHz: 1; BW @ Acl(MHz): 115; Diff Gain(%): 0.06; Diff Phase(deg): 0.04; Iib(Max)(nA): 750; Io(Typ)(mA): 40; Iq per channel(Max)(mA): 0.46; Number of Channels: 2; Settling Time (0.1%)(Typ)(ns): 25; Slew Rate(Typ)(V/us): 250; Sub Family: High Speed Amplifier (>=50MHz), Low Supply Voltage Amplifier (<=2.7V); THD (Fc is 1 MHz)(Typ)(dB): -74; Vio(Max)(mV): 5; Vn at Flatband(Typ)(nV/rtHz): 8.4; Vs(Max)(V): 12; Vs(Min)(V): 2.6; DatasheetVersion: SBOS373B; PackageVersion: 4073272/C, 02/2004; PackageReference: DGS10; PackageDescription: 10-Pin Plastic Small Outline, Body 3 x 3 mm, Pitch 0.5 mm; Supplier 1: Digi-Key; Supplier Part Number 1: OPA2889IDGSRG4-ND; Supplier 2: Mouser; Supplier Part Number 2: 595-OPA2889IDGSRG4; Acl, min stable gain(V/V): 1; Eco-Plan: Green (RoHS & no Sb/Br); Mounting Technology: Surface Mount; Code_JEDEC: MO-153; ComponentLink1Description: Manufacturer URL; ComponentLink1URL: http://www.ti.com/; ComponentLink2Description: Datasheet; ComponentLink2URL: http://www.ti.com/general/docs/lit/getliterature.tsp?genericPartNumber=OPA2889&fileType=pdf; ComponentLink3Description: Package Specification; ComponentLink3URL: http://www.ti.com/lit/ml/mpds035b/mpds035b.pdf
footprint TI-DGS10_N (SOP, 10-Leads, Body 3x3mm, Pitch 0.5mm, IPC Medium Density)
footprint TI-DGS10_L (SOP, 10-Leads, Body 3x3mm, Pitch 0.5mm, IPC High Density)
footprint TI-DGS10_M (SOP, 10-Leads, Body 3x3mm, Pitch 0.5mm, IPC Low Density)
pins on every part: 3 VS- (power), 8 VS+ (power)
part A pins: 1 IN A+ (in), 2 ~{DIS A} (in), 9 OUT A (hiz), 10 IN A- (in)
part B pins: 4 ~{DIS B} (in), 5 IN B+ (in), 6 IN B- (in), 7 OUT B (hiz)

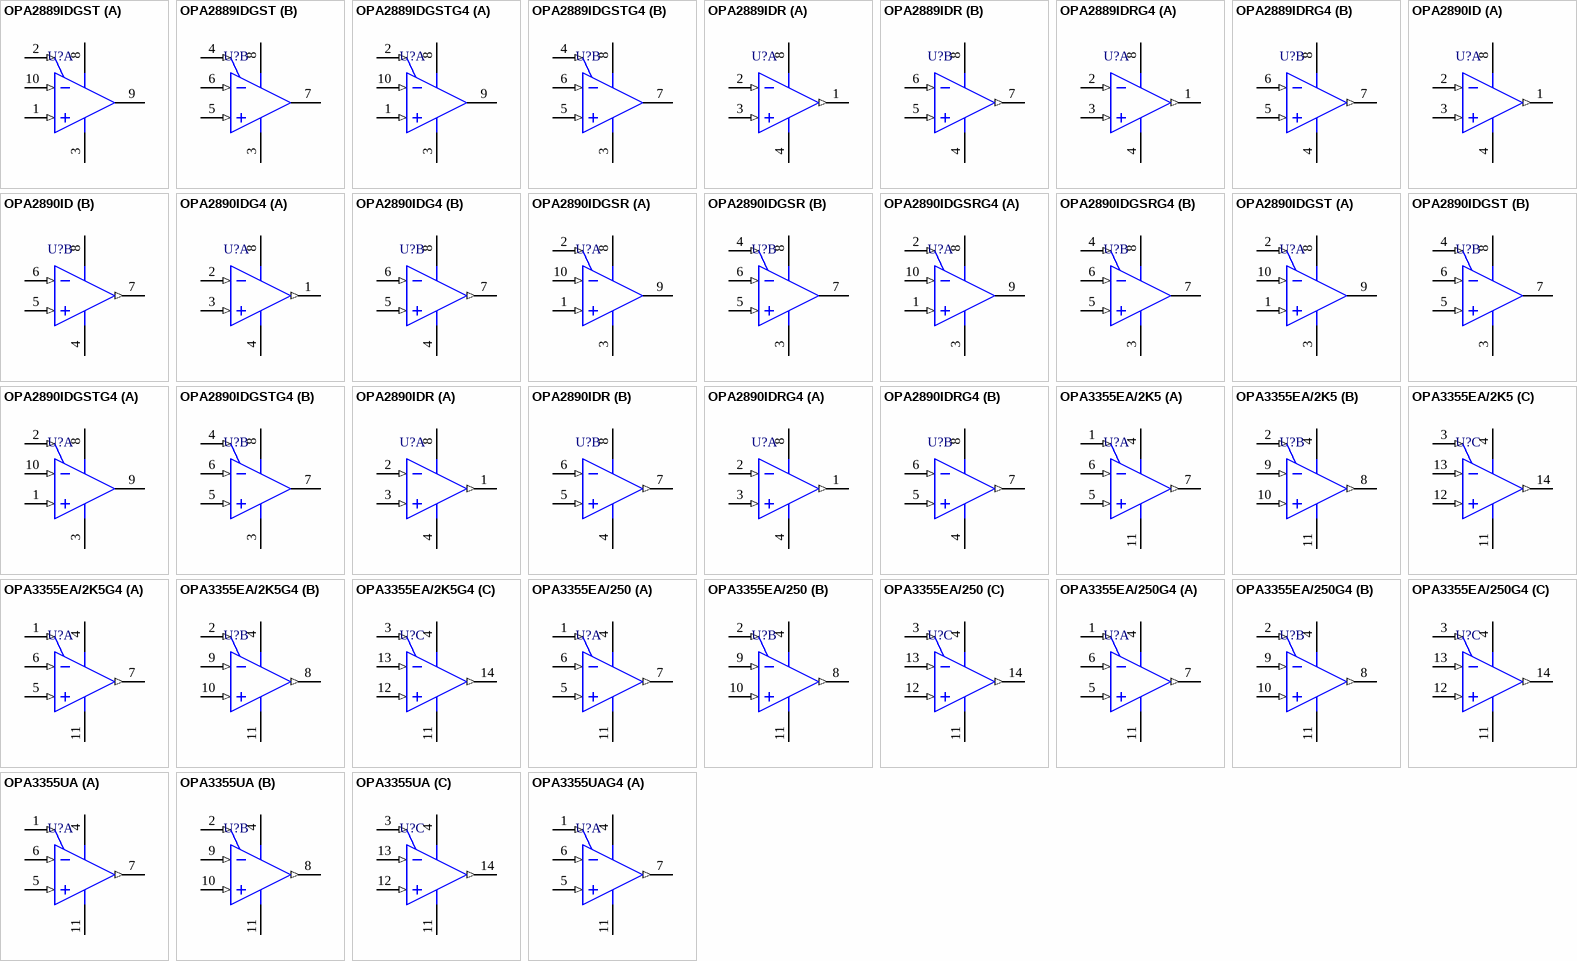
[diagram p15: symbols OPA2889IDGST to OPA3355UAG4]

## OPA2889IDGST
designator U?
Dual, Low Power, Wideband, Voltage Feedback Operational Amplifier with Disable, 2.6 to 12 V, -40 to 85 degC, 10-pin SOP (DGS10), Green (RoHS & no Sb/Br); Manufacturer: Texas Instruments; PartNumber: OPA2889IDGST; 2nd Harmonic(dBc): 75; 3rd Harmonic(dBc): 80; @ MHz: 1; BW @ Acl(MHz): 115; Diff Gain(%): 0.06; Diff Phase(deg): 0.04; Iib(Max)(nA): 750; Io(Typ)(mA): 40; Iq per channel(Max)(mA): 0.46; Number of Channels: 2; Settling Time (0.1%)(Typ)(ns): 25; Slew Rate(Typ)(V/us): 250; Sub Family: High Speed Amplifier (>=50MHz), Low Supply Voltage Amplifier (<=2.7V); THD (Fc is 1 MHz)(Typ)(dB): -74; Vio(Max)(mV): 5; Vn at Flatband(Typ)(nV/rtHz): 8.4; Vs(Max)(V): 12; Vs(Min)(V): 2.6; DatasheetVersion: SBOS373B; PackageVersion: 4073272/C, 02/2004; PackageReference: DGS10; PackageDescription: 10-Pin Plastic Small Outline, Body 3 x 3 mm, Pitch 0.5 mm; Supplier 1: Digi-Key; Supplier Part Number 1: 296-24594-2-ND; Supplier 2: Digi-Key; Supplier Part Number 2: 296-24594-1-ND; Supplier 3: Digi-Key; Supplier Part Number 3: 296-24594-6-ND; Supplier 4: Mouser; Supplier Part Number 4: 595-OPA2889IDGST; Acl, min stable gain(V/V): 1; Eco-Plan: Green (RoHS & no Sb/Br); Mounting Technology: Surface Mount; Code_JEDEC: MO-153; ComponentLink1Description: Manufacturer URL; ComponentLink1URL: http://www.ti.com/; ComponentLink2Description: Datasheet; ComponentLink2URL: http://www.ti.com/general/docs/lit/getliterature.tsp?genericPartNumber=OPA2889&fileType=pdf; ComponentLink3Description: Package Specification; ComponentLink3URL: http://www.ti.com/lit/ml/mpds035b/mpds035b.pdf
footprint TI-DGS10_N (SOP, 10-Leads, Body 3x3mm, Pitch 0.5mm, IPC Medium Density)
footprint TI-DGS10_L (SOP, 10-Leads, Body 3x3mm, Pitch 0.5mm, IPC High Density)
footprint TI-DGS10_M (SOP, 10-Leads, Body 3x3mm, Pitch 0.5mm, IPC Low Density)
pins on every part: 3 VS- (power), 8 VS+ (power)
part A pins: 1 IN A+ (in), 2 ~{DIS A} (in), 9 OUT A (hiz), 10 IN A- (in)
part B pins: 4 ~{DIS B} (in), 5 IN B+ (in), 6 IN B- (in), 7 OUT B (hiz)